# Altium footprint library CAPC1005X55N.PcbLib: 1 footprints
Each footprint in its own frame and in the unit in brackets; x right, y up, seen from the top. Pads: shape width x height; smd on the part's side, far side on the other; paste and mask are expansions set on the pad; w line width, h text height; cw(c..) or ccw(c..) is an arc to the next point about the centre after c.
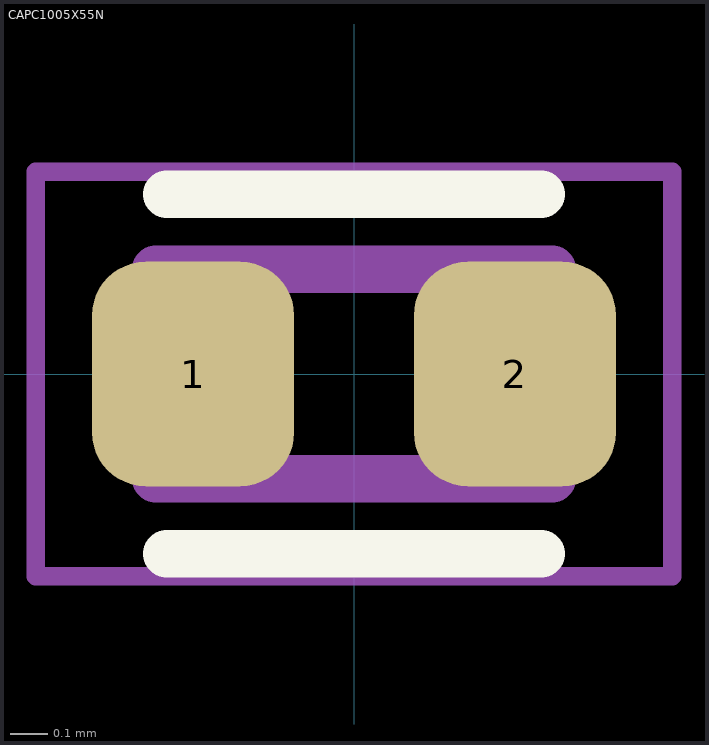
[diagram p0: the footprint, top view; thin cyan lines are the x and y axes]

## CAPC1005X55N [mm]
pads (2):
  rrect53% 0.54x0.6 smd: 1(-0.43,0) 2(0.43,0)
Top Overlay:
  lines w0.127: -0.5,-0.48 0.5,-0.48 ; -0.5,0.48 0.5,0.48
Mechanical 13:
  lines w0.127: -0.53,-0.28 -0.53,0.28 0.53,0.28 0.53,-0.28 -0.53,-0.28
Mechanical 15:
  lines w0.05: -0.85,-0.54 -0.85,0.54 0.85,0.54 0.85,-0.54 -0.85,-0.54
3D body "step_temp.STEP": height 0.55, standoff 0, extent -0.5,-0.25 0.5,0.25